# Altium schematic symbol library 10ConnectorLHS.SchLib: 1 symbol
Pins are listed as number, name and electrical type; pins without a type are passive.

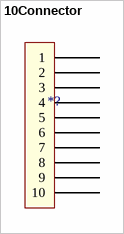
[diagram p0: symbol 10Connector]

## 10Connector
designator *, comment *?
footprint 10Connector
pins: 1, 2, 3, 4, 5, 6, 7, 8, 9, 10